# Altium schematic symbol library PIC18F56Q71-I_PT.Schlib: 1 symbol
Pins are listed as number, name and electrical type; pins without a type are passive.

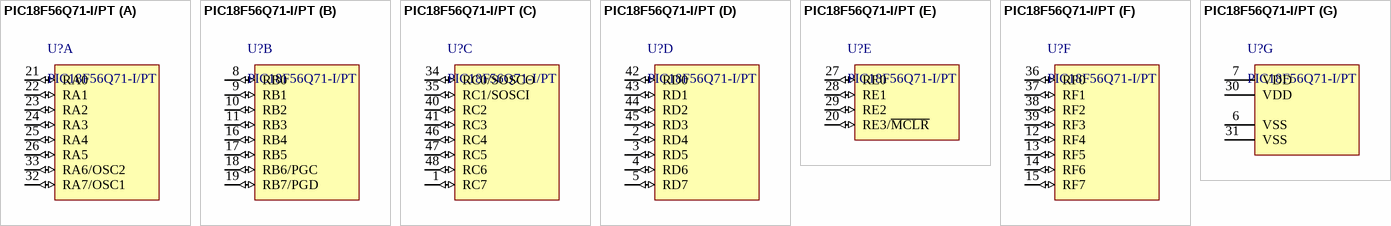
[diagram p0: symbol PIC18F56Q71-I/PT]

## PIC18F56Q71-I/PT
designator U?
PIC PIC® 18F Microcontroller IC 8-Bit 64MHz 64KB (64K x 8) FLASH 48-TQFP (7x7)
part A pins: 21 RA0 (io), 22 RA1 (io), 23 RA2 (io), 24 RA3 (io), 25 RA4 (io), 26 RA5 (io), 32 RA7/OSC1 (io), 33 RA6/OSC2 (io)
part B pins: 8 RB0 (io), 9 RB1 (io), 10 RB2 (io), 11 RB3 (io), 16 RB4 (io), 17 RB5 (io), 18 RB6/PGC (io), 19 RB7/PGD (io)
part C pins: 1 RC7 (io), 34 RC0/SOSCO (io), 35 RC1/SOSCI (io), 40 RC2 (io), 41 RC3 (io), 46 RC4 (io), 47 RC5 (io), 48 RC6 (io)
part D pins: 2 RD4 (io), 3 RD5 (io), 4 RD6 (io), 5 RD7 (io), 42 RD0 (io), 43 RD1 (io), 44 RD2 (io), 45 RD3 (io)
part E pins: 20 RE3/~{MCLR} (io), 27 RE0 (io), 28 RE1 (io), 29 RE2 (io)
part F pins: 12 RF4 (io), 13 RF5 (io), 14 RF6 (io), 15 RF7 (io), 36 RF0 (io), 37 RF1 (io), 38 RF2 (io), 39 RF3 (io)
part G pins: 6 VSS (power), 7 VDD (power), 30 VDD (power), 31 VSS (power)